# Altium footprint library MyECG.PcbLib: 13 footprints
Each footprint in its own frame and in the unit in brackets; x right, y up, seen from the top. Pads: shape width x height; smd on the part's side, far side on the other; paste and mask are expansions set on the pad; w line width, h text height; cw(c..) or ccw(c..) is an arc to the next point about the centre after c.
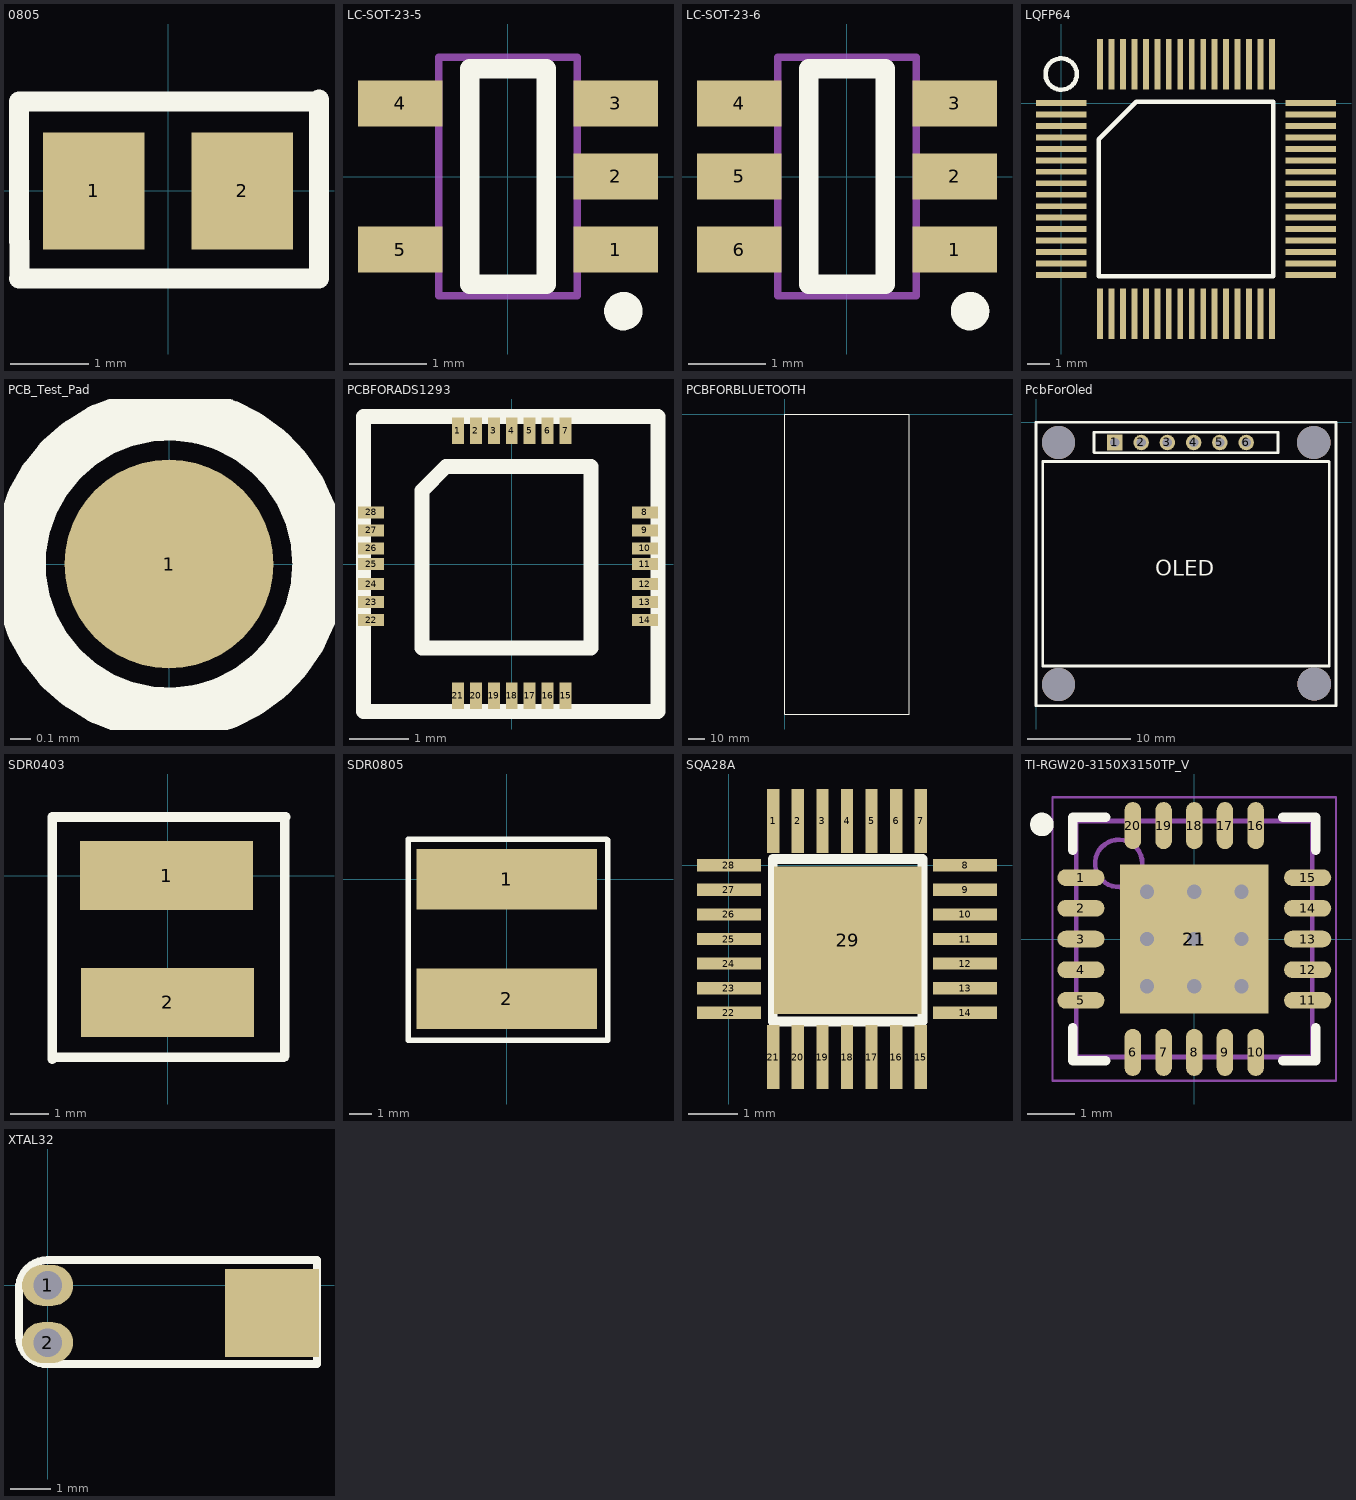
[diagram p0: the footprints below, top view; thin cyan lines are the x and y axes]

## 0805 [mm] "Chip Capacitor; Body 2.0 x 1.2 mm (LxW typ)"
height 1.3
pads (2):
  rect 1.3x1.5 smd: 1(-0.95,0) 2(0.95,0)
Top Overlay:
  lines w0.254: 1.93,1.143 -1.905,1.143 -1.905,-0.645 -1.9,-0.65 -1.9,-1.113 -1.905,-1.118 1.93,-1.118 1.93,1.168

## LC-SOT-23-5 [mm]
pads (5):
  rect 1.1x0.6 smd: 1(1.4,-0.95) 2(1.4,0) 3(1.4,0.95) 4(-1.4,0.95) 5(-1.4,-0.95)
Top Overlay:
  circle w0.25: c1.5,-1.75 r0.125
  lines w0.254: -0.5,-1.4 0.5,-1.4 0.5,1.4 -0.5,1.4 -0.5,-1.4
Mechanical 13:
  lines w0.1: -0.9,-1.55 -0.9,1.55 0.9,1.55 0.9,-1.55 -0.9,-1.55

## LC-SOT-23-6 [mm]
pads (6):
  rect 1.1x0.6 smd: 1(1.4,-0.95) 2(1.4,0) 3(1.4,0.95) 4(-1.4,0.95) 5(-1.4,0) 6(-1.4,-0.95)
Top Overlay:
  circle w0.25: c1.6,-1.75 r0.125
  lines w0.254: -0.5,-1.4 -0.5,1.4 0.5,1.4 0.5,-1.4 -0.5,-1.4
Mechanical 13:
  lines w0.1: -0.9,-1.55 -0.9,1.55 0.9,1.55 0.9,-1.55 -0.9,-1.55

## LQFP64 [mm]
pads (64):
  rect 2.2x0.254 smd: 1(0,0) 2(0,-0.5) 3(0,-1) 4(0,-1.5) 5(0,-2) 6(0,-2.5) 7(0,-3) 8(0,-3.5) 9(0,-4) 10(0,-4.5) 11(0,-5) 12(0,-5.5) 13(0,-6) 14(0,-6.5) 15(0,-7) 16(0,-7.5) 33(10.9,-7.5) 34(10.9,-7) 35(10.9,-6.5) 36(10.9,-6) 37(10.9,-5.5) 38(10.9,-5) 39(10.9,-4.5) 40(10.9,-4) 41(10.9,-3.5) 42(10.9,-3) 43(10.9,-2.5) 44(10.9,-2) 45(10.9,-1.5) 46(10.9,-1) 47(10.9,-0.5) 48(10.9,0)
  rect 0.254x2.2 smd: 17(1.7,-9.2) 18(2.2,-9.2) 19(2.7,-9.2) 20(3.2,-9.2) 21(3.7,-9.2) 22(4.2,-9.2) 23(4.7,-9.2) 24(5.2,-9.2) 25(5.7,-9.2) 26(6.2,-9.2) 27(6.7,-9.2) 28(7.2,-9.2) 29(7.7,-9.2) 30(8.2,-9.2) 31(8.7,-9.2) 32(9.2,-9.2) 49(9.2,1.7) 50(8.7,1.7) 51(8.2,1.7) 52(7.7,1.7) 53(7.2,1.7) 54(6.7,1.7) 55(6.2,1.7) 56(5.7,1.7) 57(5.2,1.7) 58(4.7,1.7) 59(4.2,1.7) 60(3.7,1.7) 61(3.2,1.7) 62(2.7,1.7) 63(2.2,1.7) 64(1.7,1.7)
Top Overlay:
  circle w0.2: c0,1.27 r0.684
  lines w0.2: 1.635,-7.565 1.635,-1.57 3.27,0.065 9.265,0.065 9.265,-7.565 1.635,-7.565

## PCB_Test_Pad [mm]
pads (1):
  round 1 smd: 1(0,0)
Top Overlay:
  circle w0.254: c0,0 r0.718

## PCBFORADS1293 [mil]
pads (28):
  rect 8x17.4 smd: 1(-36,89) 2(-24,89) 3(-12,89) 4(0,89) 5(12,89) 6(24,89) 7(36,89) 15(36,-88) 16(24,-88) 17(12,-88) 18(0,-88) 19(-12,-88) 20(-24,-88) 21(-36,-88)
  rect 17.4x8 smd: 8(89,34.49) 9(89,22.49) 10(89,10.49) 11(89,0) 12(89,-13.51) 13(89,-25.51) 14(89,-37.51) 22(-94,-37.51) 23(-94,-25.51) 24(-94,-13.51) 25(-94,0) 26(-94,10.49) 27(-94,22.49) 28(-94,34.49)
Top Overlay:
  lines w10: 97.7,-98.43 -99,-98.43 -99,98.43 97.7,98.43 ; 97.7,-98 97.7,98 ; -60,-56 -60,49 -44,65 53,65 53,-56 -60,-56

## PCBFORBLUETOOTH [mm]
Top Overlay:
  lines w0.254: 0,-186.5 0,0 77.5,0 77.5,-186.5 0,-186.5

## PcbForOled [mm]
pads (6):
  rect 1.5x1.5 hole 0.9: 1(7.62,-1.945)
  round 1.5 hole 0.9: 2(10.16,-1.945) 3(12.7,-1.945) 4(15.24,-1.945) 5(17.78,-1.945) 6(20.32,-1.945)
via 26.899,-25.273 diameter 3.2 hole 3.2
via 2.184,-25.324 diameter 3.2 hole 3.2
via 26.848,-1.93 diameter 3.2 hole 3.2
via 2.159,-1.93 diameter 3.2 hole 3.2
Top Overlay:
  lines w0.254: 5.61,-2.917 5.61,-0.965 23.39,-0.965 23.39,-2.917 ; 5.613,-2.943 23.393,-2.943 ; 0,-27.38 29,-27.38 29,0 0,0 0,-27.38 ; 0.635,-23.546 0.635,-3.785 28.321,-3.785 28.346,-3.81 28.346,-23.546 0.635,-23.546
  text "OLED" at 11.532,-14.834 h1.52

## SDR0403 [mm]
pads (2):
  rect 4.5x1.8 smd: 1(-0.025,0) 2(0,-3.3)
Top Overlay:
  lines w0.254: -2.997,-4.775 -2.997,1.524 3.073,1.524 3.048,1.499 3.048,-4.699 3.023,-4.724 -2.946,-4.724

## SDR0805 [mm]
pads (2):
  rect 8x2.7 smd: 1(0,0) 2(0,-5.3)
Top Overlay:
  lines w0.254: 4.445,-7.137 -4.369,-7.137 -4.369,1.778 4.42,1.778 4.47,1.727 4.47,-7.137

## SQA28A [mm]
pads (29):
  rect 0.25x1.3 smd: 1(0.9,0.9) 2(1.4,0.9) 3(1.9,0.9) 4(2.4,0.9) 5(2.9,0.9) 6(3.4,0.9) 7(3.9,0.9) 15(3.9,-3.9) 16(3.4,-3.9) 17(2.9,-3.9) 18(2.4,-3.9) 19(1.9,-3.9) 20(1.4,-3.9) 21(0.9,-3.9)
  rect 1.3x0.25 smd: 8(4.8,0) 9(4.8,-0.5) 10(4.8,-1) 11(4.8,-1.5) 12(4.8,-2) 13(4.8,-2.5) 14(4.8,-3) 22(0,-3) 23(0,-2.5) 24(0,-2) 25(0,-1.5) 26(0,-1) 27(0,-0.5) 28(0,0)
  rect 3.002x3.002 smd: 29(2.413,-1.524)
Top Overlay:
  lines w0.2: 0.889,-3.175 0.889,0.127 3.937,0.127 3.937,-3.175 0.889,-3.175

## TI-RGW20-3150X3150TP_V [mm] "QFN, 20-Leads, Body 5x5mm, Pitch 0.65mm, Thermal Pad 3.15x3.15mm"
height 1
pads (21):
  oval 1x0.35 smd: 1(-2.4,1.3) 2(-2.4,0.65) 3(-2.4,0) 4(-2.4,-0.65) 5(-2.4,-1.3) 11(2.4,-1.3) 12(2.4,-0.65) 13(2.4,0) 14(2.4,0.65) 15(2.4,1.3)
  oval 0.35x1 smd: 6(-1.3,-2.4) 7(-0.65,-2.4) 8(0,-2.4) 9(0.65,-2.4) 10(1.3,-2.4) 16(1.3,2.4) 17(0.65,2.4) 18(0,2.4) 19(-0.65,2.4) 20(-1.3,2.4)
  rect 3.15x3.15 smd: 21(0,0)
via -1,1 diameter 0.5 hole 0.3
via 0,1 diameter 0.5 hole 0.3
via 1,1 diameter 0.5 hole 0.3
via -1,0 diameter 0.5 hole 0.3
via 0,0 diameter 0.5 hole 0.3
via 1,0 diameter 0.5 hole 0.3
via -1,-1 diameter 0.5 hole 0.3
via 0,-1 diameter 0.5 hole 0.3
via 1,-1 diameter 0.5 hole 0.3
Top Overlay:
  circle w0.25: c-3.225,2.425 r0.125
  lines w0.2: -2.575,-1.875 -2.575,-2.575 -1.875,-2.575 ; -2.575,1.875 -2.575,2.575 -1.875,2.575 ; 1.875,-2.575 2.575,-2.575 2.575,-1.875 ; 1.875,2.575 2.575,2.575 2.575,1.875
Mechanical 13:
  circle w0.1: c-1.6,1.6 r0.5
  lines w0.1: -2.5,-2.5 -2.5,2.5 2.5,2.5 2.5,-2.5 -2.5,-2.5
Mechanical 15:
  lines w0.05: -3,-3 -3,3 3,3 3,-3 -3,-3
  lines w0.1: -0.5,0 0.5,0 ; 0,-0.5 0,0.5
3D body: height 1, standoff 0, extent -2.5,-2.5 2.5,2.5

## XTAL32 [mil]
pads (3):
  oval 50x40 hole 28: 1(0,0) 2(0,-56)
  rect 92.13x86 smd: ""(220,-27)
Top Overlay:
  lines w8: -28,-50 ccw(c-0.5,-49.5) 0,-77 264,-77 264,25 0,25 ccw(c0.5,-3.5) -28,-4 -28,-50